# EAGLE library part LM258DG (library ON_Semiconductor_By_element14_Batch_1)
Single Supply Dual Operational Amplifiers
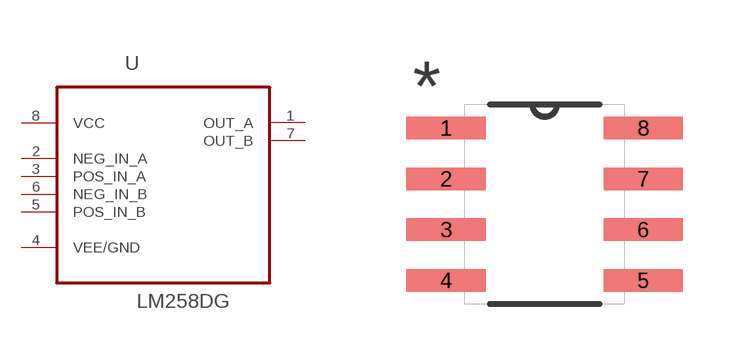
[diagram p35: symbol with the pads of SOIC127P600X175-8N; footprint SOIC127P600X175-8N]

Designator prefix U

## LM258DG (MPN: LM258DG; OC_FARNELL: 1211094; OC_NEWARK: 71J4994; PACKAGE: SOIC-8; SUPPLIER: Onsemiconductor)  [SOIC127P600X175-8N]
1  OUT_A  out
2  NEG_IN_A  in
3  POS_IN_A  in
4  VEE/GND  pwr
5  POS_IN_B  in
6  NEG_IN_B  in
7  OUT_B  out
8  VCC  pwr

## Footprint SOIC127P600X175-8N (pad centres in mm)
smd 1.981 x 0.559: 1 -2.464,1.905; 2 -2.464,0.635; 3 -2.464,-0.635; 4 -2.464,-1.905; 5 2.464,-1.905; 6 2.464,-0.635; 7 2.464,0.635; 8 2.464,1.905